# Altium footprint library L7806.PcbLib: 1 footprints
Each footprint in its own frame and in the unit in brackets; x right, y up, seen from the top. Pads: shape width x height; smd on the part's side, far side on the other; paste and mask are expansions set on the pad; w line width, h text height; cw(c..) or ccw(c..) is an arc to the next point about the centre after c.
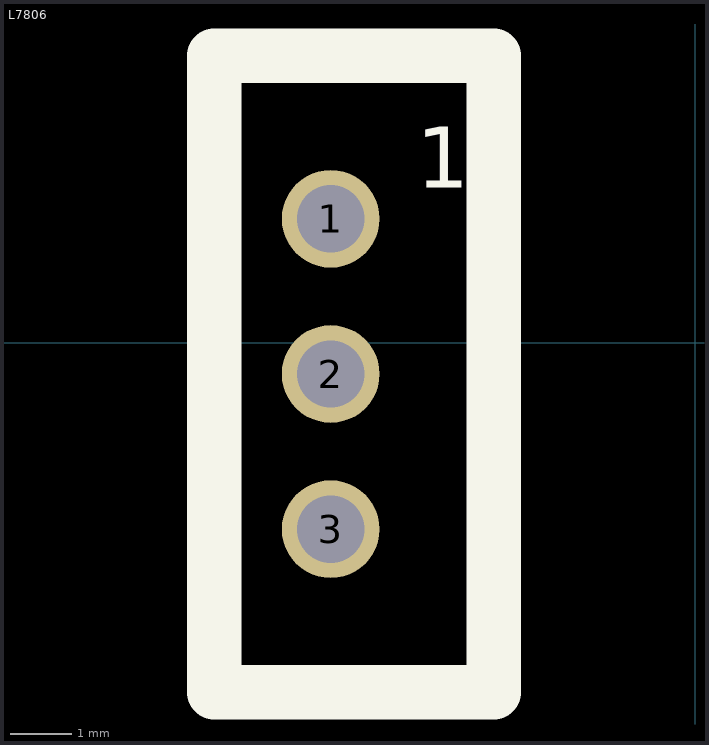
[diagram p0: the footprint, top view; thin cyan lines are the x and y axes]

## L7806 [mm]
pads (3):
  round 1.6 hole 1.1: 1(-5.969,2.032) 2(-5.969,-0.508) 3(-5.969,-3.048)
Top Overlay:
  lines w0.889: -7.874,-5.715 -3.302,-5.715 -3.302,4.699 -7.874,4.699 -7.874,-5.715
  text "1" at -4.572,2.54 h1
3D body "TO-220_STM.step": height 19.71, standoff -6.48, extent -7.9,-5.715 -3.302,4.699